# Altium footprint library COOLCONTROL.PcbLib: 95 footprints (part 4 of 6)
Each footprint in its own frame and in the unit in brackets; x right, y up, seen from the top. Pads: shape width x height; smd on the part's side, far side on the other; paste and mask are expansions set on the pad; w line width, h text height; cw(c..) or ccw(c..) is an arc to the next point about the centre after c.
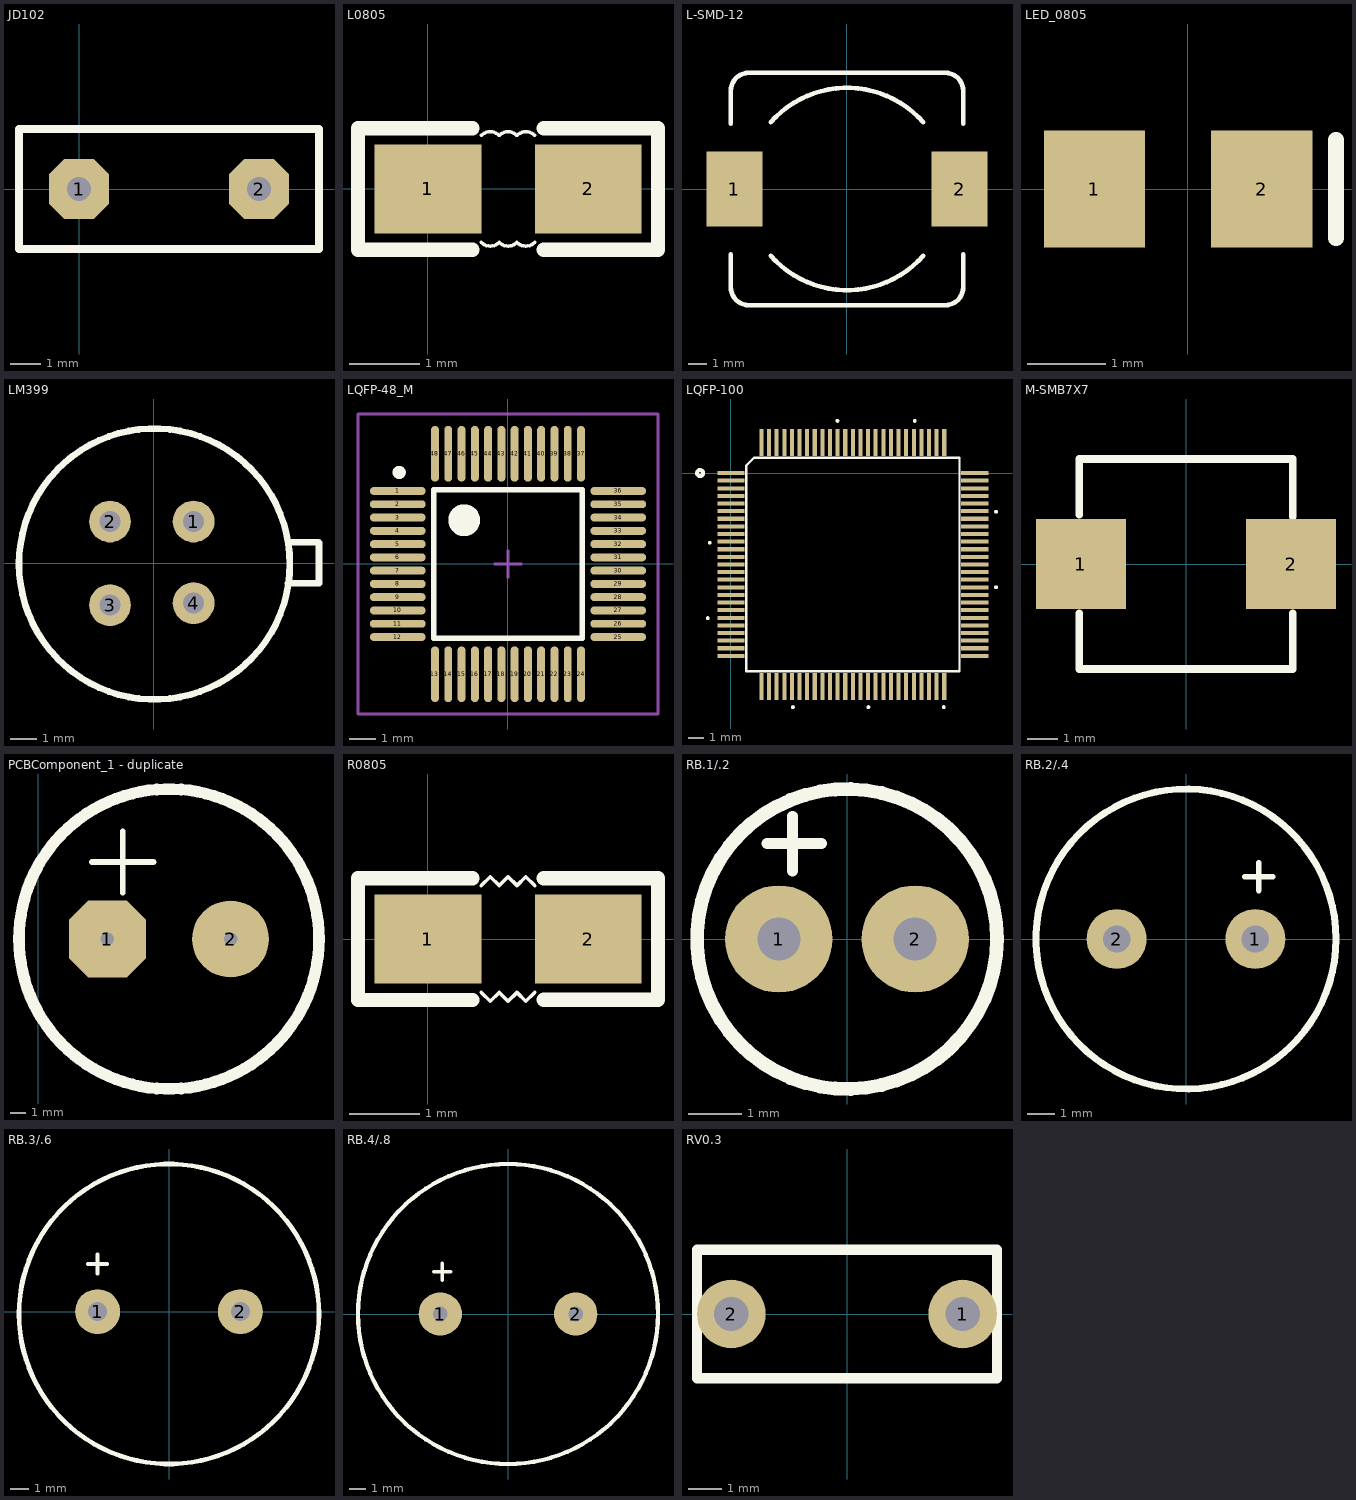
[diagram p3: the footprints below, top view; thin cyan lines are the x and y axes]

## JD102 [mm]
pads (2):
  oct 2x2 hole 0.8: 1(0,0) 2(6,0)
Top Overlay:
  lines w0.254: -2,-2 8,-2 8,2 -2,2 -2,-2

## L0805 [mil]
pads (2):
  rect 60x50 smd: 1(0,0) 2(90,0)
Top Overlay:
  lines w1.97: 30,-30 ccw(c35,-25) 40,-30 ccw(c45,-25) 50,-30 ccw(c55,-25) 60,-30 ; 30,30 cw(c35,25) 40,30 cw(c45,25) 50,30 cw(c55,25) 60,30
  lines w8: 25,-34.16 -39.19,-34.16 -39.19,34.09 25,34.09 ; 65,-34.08 129.13,-34.08 129.13,34.12 65,34.12

## L-SMD-12 [mm]
pads (2):
  rect 3x4 smd: 1(-6,0) 2(6,0)
Top Overlay:
  lines w0.254: -6.2,-3.475 -6.2,-5.23 ccw(c-5.23,-5.23) -5.23,-6.2 5.23,-6.2 ccw(c5.23,-5.23) 6.2,-5.23 6.2,-3.475 ; -6.2,3.475 -6.2,5.23 cw(c-5.23,5.23) -5.23,6.2 5.23,6.2 cw(c5.23,5.23) 6.2,5.23 6.2,3.475 ; -4.064,-3.556 ccw(c0,0) 4.064,-3.556 ; -4.064,3.556 cw(c0,0) 4.064,3.556

## LED_0805 [mm]
pads (2):
  rect 1.3x1.5 smd: 1(-1.2,0) 2(0.95,0)
Top Overlay:
  lines w0.2: 1.905,-0.635 1.905,0.635

## LM399 [mm]
pads (4):
  round 1.6 hole 0.8: 1(1.524,1.6) 2(-1.676,1.6) 3(-1.676,-1.6) 4(1.524,-1.524)
Top Overlay:
  circle w0.254: c0.025,-0.025 r5.186
  lines w0.254: 5.131,-0.762 6.325,-0.762 6.325,0.787 6.299,0.813 5.232,0.813

## LQFP-48_M [mm]
pads (48):
  oval 2.1x0.3 smd: 1(-4.152,2.75) 2(-4.152,2.25) 3(-4.152,1.75) 4(-4.152,1.25) 5(-4.152,0.75) 6(-4.152,0.25) 7(-4.152,-0.25) 8(-4.152,-0.75) 9(-4.152,-1.25) 10(-4.152,-1.75) 11(-4.152,-2.25) 12(-4.152,-2.75) 25(4.152,-2.75) 26(4.152,-2.25) 27(4.152,-1.75) 28(4.152,-1.25) 29(4.152,-0.75) 30(4.152,-0.25) 31(4.152,0.25) 32(4.152,0.75) 33(4.152,1.25) 34(4.152,1.75) 35(4.152,2.25) 36(4.152,2.75)
  oval 0.3x2.1 smd: 13(-2.75,-4.152) 14(-2.25,-4.152) 15(-1.75,-4.152) 16(-1.25,-4.152) 17(-0.75,-4.152) 18(-0.25,-4.152) 19(0.25,-4.152) 20(0.75,-4.152) 21(1.25,-4.152) 22(1.75,-4.152) 23(2.25,-4.152) 24(2.75,-4.152) 37(2.75,4.152) 38(2.25,4.152) 39(1.75,4.152) 40(1.25,4.152) 41(0.75,4.152) 42(0.25,4.152) 43(-0.25,4.152) 44(-0.75,4.152) 45(-1.25,4.152) 46(-1.75,4.152) 47(-2.25,4.152) 48(-2.75,4.152)
Top Overlay:
  circle w0.25: c-4.1,3.45 r0.125
  circle w0.6: c-1.65,1.65 r0.3
  lines w0.2: -2.8,-2.8 -2.8,2.8 2.8,2.8 2.8,-2.8 -2.8,-2.8
Mechanical 15:
  lines w0.1: -0.5,0 0.5,0 ; 0,-0.5 0,0.5 ; -5.65,-5.65 -5.65,5.65 5.65,5.65 5.65,-5.65 -5.65,-5.65

## LQFP-100 [mil]
pads (100):
  rect 70.87x10.5 smd: 1(0,0.01)
  rect 70x10.5 smd: 2(0,-19.68) 3(0,-39.36) 4(0,-59.05) 5(0,-78.73) 6(0,-98.42) 7(0,-118.1) 8(0,-137.78) 9(0,-157.47) 10(0,-177.16) 11(0,-196.84) 12(0,-216.53) 13(0,-236.21) 14(0,-255.9) 15(0,-275.58) 16(0,-295.26) 17(0,-314.95) 18(0,-334.63) 19(0,-354.32) 20(0,-374) 21(0,-393.69) 22(0,-413.38) 23(0,-433.06) 24(0,-452.75) 25(0,-472.43) 51(629.92,-472.43) 52(629.92,-452.75) 53(629.92,-433.06) 54(629.92,-413.38) 55(629.92,-393.69) 56(629.92,-374) 57(629.92,-354.32) 58(629.92,-334.63) 59(629.92,-314.95) 60(629.92,-295.26) 61(629.92,-275.58) 62(629.92,-255.9) 63(629.92,-236.21) 64(629.92,-216.53) 65(629.92,-196.84) 66(629.92,-177.16) 67(629.92,-157.47) 68(629.92,-137.78) 69(629.92,-118.1) 70(629.92,-98.42) 71(629.92,-78.73) 72(629.92,-59.05) 73(629.92,-39.36) 74(629.92,-19.68) 75(629.92,0.01)
  rect 10.5x70 smd: 26(78.74,-551.17) 27(98.43,-551.17) 28(118.11,-551.17) 29(137.8,-551.17) 30(157.48,-551.17) 31(177.17,-551.17) 32(196.85,-551.17) 33(216.54,-551.17) 34(236.22,-551.17) 35(255.91,-551.17) 36(275.59,-551.17) 37(295.28,-551.17) 38(314.96,-551.17) 39(334.65,-551.17) 40(354.33,-551.17) 41(374.02,-551.17) 42(393.7,-551.17) 43(413.39,-551.17) 44(433.07,-551.17) 45(452.76,-551.17) 46(472.44,-551.17) 47(492.13,-551.17) 48(511.81,-551.17) 49(531.5,-551.17) 50(551.18,-551.17) 76(551.18,78.75) 77(531.5,78.75) 78(511.81,78.75) 79(492.13,78.75) 80(472.44,78.75) 81(452.76,78.75) 82(433.07,78.75) 83(413.39,78.75) 84(393.7,78.75) 85(374.02,78.75) 86(354.33,78.75) 87(334.65,78.75) 88(314.96,78.75) 89(295.28,78.75) 90(275.59,78.75) 91(255.91,78.75) 92(236.22,78.75) 93(216.54,78.75) 94(196.85,78.75) 95(177.17,78.75) 96(157.48,78.75) 97(137.8,78.75) 98(118.11,78.75) 99(98.43,78.75) 100(78.74,78.75)
Top Overlay:
  circle w10: c-80,0.01 r7.87
  circle w5: c-55,-179.99 r2.5
  circle w5: c-60,-374.99 r2.5
  circle w5: c160,-604.99 r2.5
  circle w5: c355,-604.99 r2.5
  circle w5: c550,-604.99 r2.5
  circle w5: c685,-294.99 r2.5
  circle w5: c685,-99.99 r2.5
  circle w5: c475,135.01 r2.5
  circle w5: c275,135.01 r2.5
  lines w6: 39.37,-511.8 590.55,-511.8 590.55,39.38 59.37,39.38 39.37,19.38 39.37,-511.8

## M-SMB7X7 [mm]
pads (2):
  rect 3x3 smd: 1(-3.5,0) 2(3.5,0)
Top Overlay:
  lines w0.254: -3.556,-3.5 -3.556,-1.651 ; -3.556,1.651 -3.556,3.5 3.556,3.5 3.556,1.58 ; -3.5,-3.5 3.5,-3.5 ; 3.556,-3.5 3.556,-1.651

## PCBComponent_1 [mil]

## PCBComponent_1 - duplicate [mil]
pads (2):
  oct 200x200 hole 35: 1(180,-640)
  round 200 hole 35: 2(500,-640)
Top Overlay:
  circle w30: c340,-640 r390
  lines w15: 140,-440 300,-440 ; 220,-520 220,-440 220,-360

## R0805 [mil]
pads (2):
  rect 60x50 smd: 1(0,0) 2(90,0)
Top Overlay:
  lines w1.97: 30,-30 35,-35 40,-30 45,-35 50,-30 55,-35 60,-30 ; 30,30 35,35 40,30 45,35 50,30 55,35 60,30
  lines w8: 25,-34.16 -39.19,-34.16 -39.19,34.09 25,34.09 ; 65,-34.08 129.13,-34.08 129.13,34.12 65,34.12

## RB.1/.2 [mm]
pads (2):
  round 2 hole 0.8: 1(-1.27,0) 2(1.27,0)
Top Overlay:
  circle w0.254: c0,0 r2.794
  lines w0.203: -1.492,1.781 -0.476,1.781 ; -1.016,1.27 -1.016,2.286

## RB.2/.4 [mm]
pads (2):
  round 2.2 hole 1: 1(2.54,0) 2(-2.54,0)
Top Overlay:
  circle w0.254: c0,0 r5.5
  lines w0.203: 2.159,2.286 3.175,2.286 ; 2.667,1.778 2.667,2.794

## RB.3/.6 [mm]
pads (2):
  round 2.4 hole 1: 1(-3.81,0) 2(3.81,0)
Top Overlay:
  circle w0.254: c0,-0.127 r8
  lines w0.203: -4.318,2.54 -3.302,2.54 ; -3.81,2.032 -3.81,3.048

## RB.4/.8 [mil]
pads (2):
  round 102.36 hole 35: 1(-160,0) 2(160,0)
Top Overlay:
  circle w10: c0,0 r354.33
  lines w8: -175,100 -135,100 ; -155,80 -155,120

## RV0.3 [mil]
pads (2):
  round 80 hole 40: 1(135,0) 2(-135,0)
Top Overlay:
  lines w12: -175,-75 175,-75 175,75 -175,75 -175,-75